# Altium integrated library optics.IntLib: 73 symbols
Pins are listed as number, name and electrical type; pins without a type are passive.

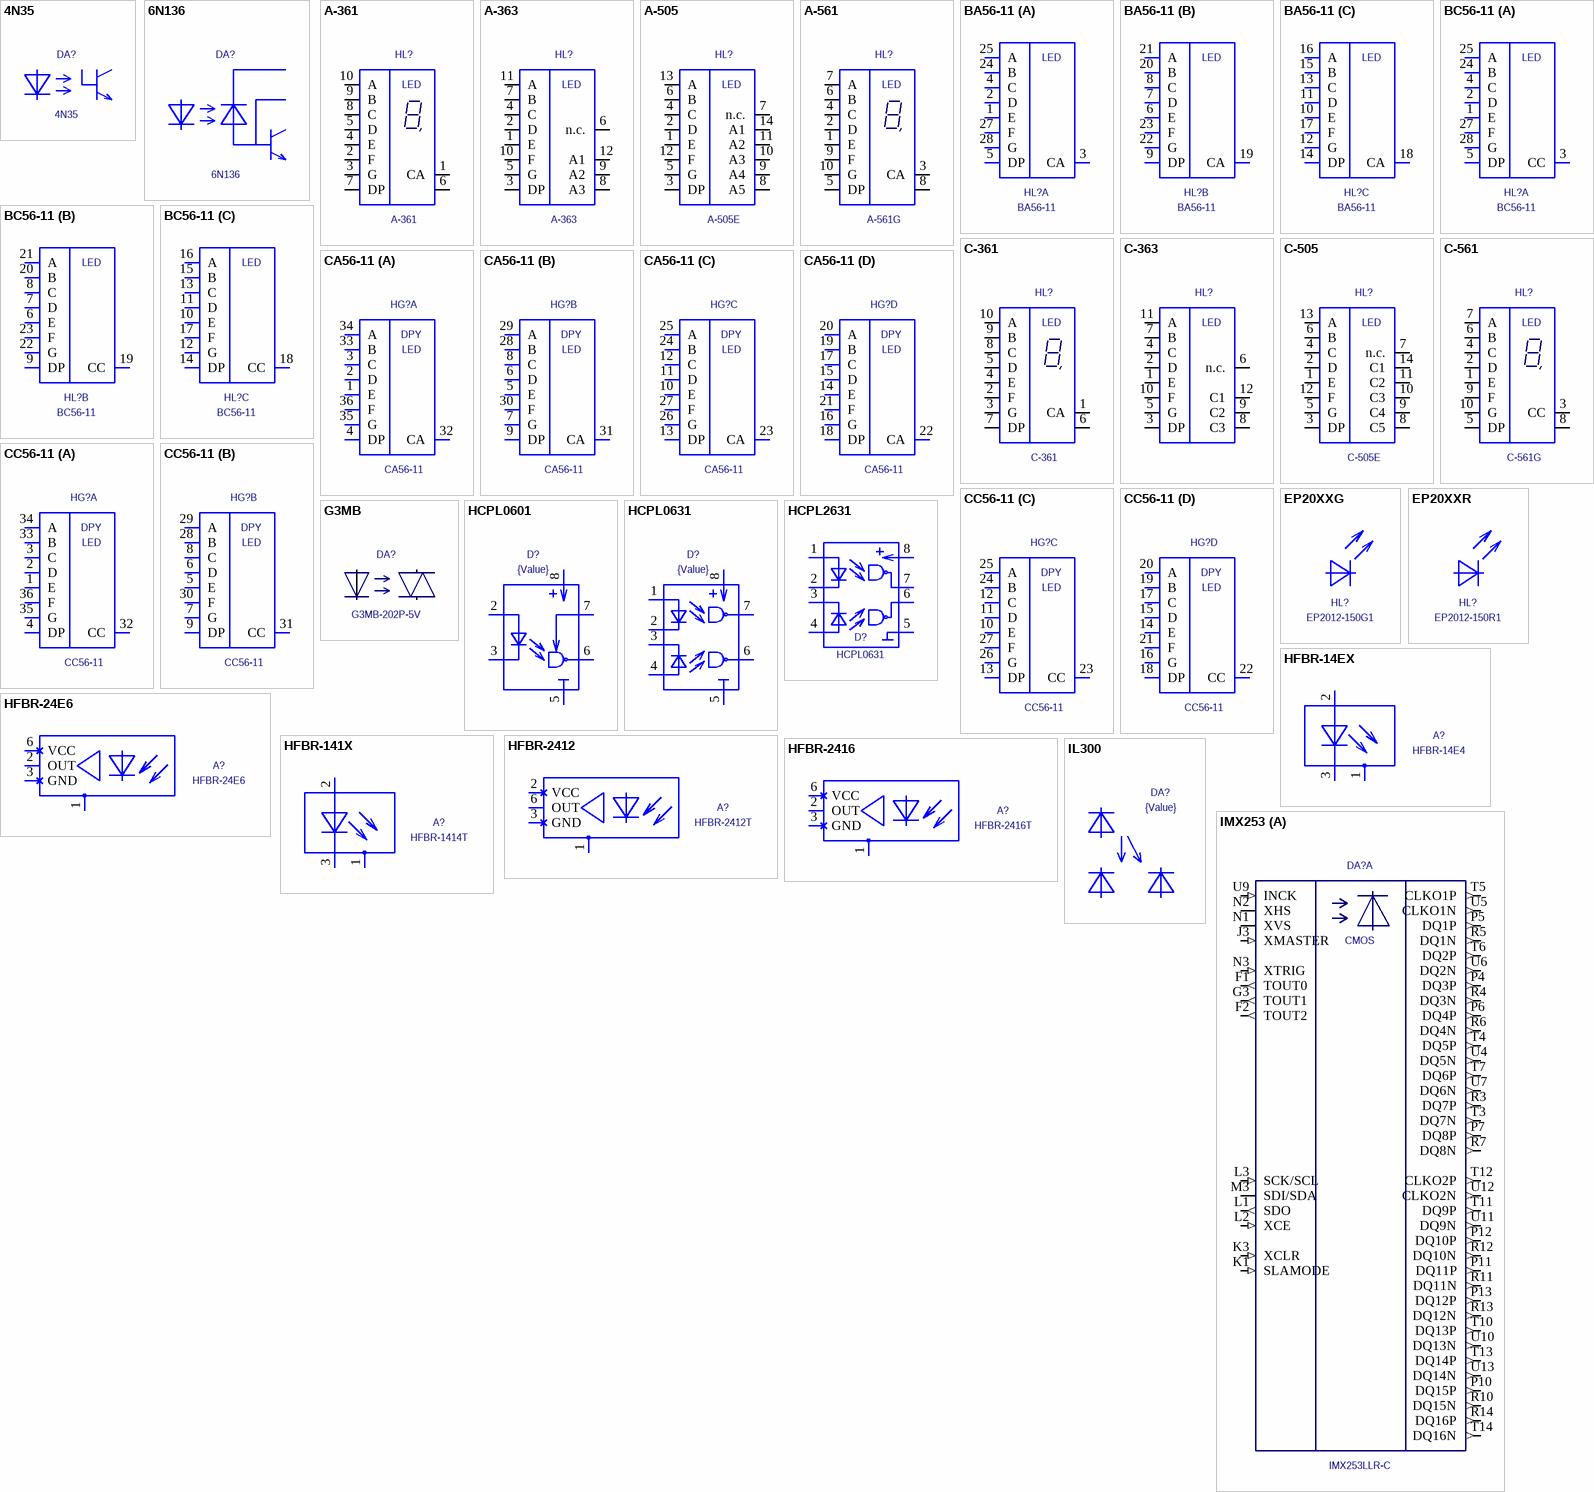
[diagram p0: symbols 4N35 to IMX253]

## 4N35
designator DA?
Value: 4N35
footprint DIP6WHITE
pins: 1 ANODE, 2 CATHODE, 3 hidden, 4 EMITT, 5 COLLECT, 6 BASE

## 6N136
designator DA?
Value: 6N136
footprint DIP8WHITE
pins: 1 hidden, 2 ANODE, 3 CATHODE, 4 hidden, 5 EMITT, 6 COLLECT, 7 BASE, 8 UVD

## A-361
designator HL?
7-seg 1-dig CA; Value: A-361
footprint SC36-11
pins: 1 CA, 2 F, 3 G, 4 E, 5 D, 6 CA, 7 DP, 8 C, 9 B, 10 A
text: LED

## A-363
designator HL?
7-seg 3-dig CA; Value: A-363
footprint A/C-363
pins: 1 E, 2 D, 3 DP, 4 C, 5 G, 6 n.c., 7 B, 8 A3, 9 A2, 10 F, 11 A, 12 A1
text: LED

## A-505
designator HL?, comment A-505E
7-seg 5 dig CA; Value: A-505E
footprint A/C-505
pins: 1 E, 2 D, 3 DP, 4 C, 5 G, 6 B, 7 n.c., 8 A5, 9 A4, 10 A3, 11 A2, 12 F, 13 A, 14 A1
text: LED

## A-561
designator HL?, comment A-561G
7-seg 1-dig CA; Value: A-561G
footprint A/C-551
pins: 1 E, 2 D, 3 CA, 4 C, 5 DP, 6 B, 7 A, 8 CA, 9 F, 10 G
text: LED

## BA56-11
designator HL?
Value: BA56-11
footprint BC56-11
pins on every part: 26 hidden
part A pins: 1 E, 2 D, 3 CA, 4 C, 5 DP, 24 B, 25 A, 27 F, 28 G
part B pins: 6 E, 7 D, 8 C, 9 DP, 19 CA, 20 B, 21 A, 22 G, 23 F
part C pins: 10 E, 11 D, 12 G, 13 C, 14 DP, 15 B, 16 A, 17 F, 18 CA
part A text: LED
part B text: LED
part C text: LED

## BC56-11
designator HL?
Value: BC56-11
footprint BC56-11
pins on every part: 26 hidden
part A pins: 1 E, 2 D, 3 CC, 4 C, 5 DP, 24 B, 25 A, 27 F, 28 G
part B pins: 6 E, 7 D, 8 C, 9 DP, 19 CC, 20 B, 21 A, 22 G, 23 F
part C pins: 10 E, 11 D, 12 G, 13 C, 14 DP, 15 B, 16 A, 17 F, 18 CC
part A text: LED
part B text: LED
part C text: LED

## C-361
designator HL?
7-seg 1-dig CC; Value: C-361
footprint SC36-11
pins: 1 CA, 2 F, 3 G, 4 E, 5 D, 6 CA, 7 DP, 8 C, 9 B, 10 A
text: LED

## C-363
designator HL?
7-seg 3-dig CC
footprint A/C-363
pins: 1 E, 2 D, 3 DP, 4 C, 5 G, 6 n.c., 7 B, 8 C3, 9 C2, 10 F, 11 A, 12 C1
text: LED

## C-505
designator HL?, comment C-505E
7-seg 5-dig CC; Value: C-505E
footprint A/C-505
pins: 1 E, 2 D, 3 DP, 4 C, 5 G, 6 B, 7 n.c., 8 C5, 9 C4, 10 C3, 11 C2, 12 F, 13 A, 14 C1
text: LED

## C-561
designator HL?, comment C-561G
7-seg 1-dig CC; Value: C-561G
footprint A/C-551
pins: 1 E, 2 D, 3 CC, 4 C, 5 DP, 6 B, 7 A, 8 CC, 9 F, 10 G
text: LED

## CA56-11
designator HG?
Value: CA56-11
footprint CC56-11
part A pins: 1 E, 2 D, 3 C, 4 DP, 32 CA, 33 B, 34 A, 35 G, 36 F
part B pins: 5 E, 6 D, 7 G, 8 C, 9 DP, 28 B, 29 A, 30 F, 31 CA
part C pins: 10 E, 11 D, 12 C, 13 DP, 23 CA, 24 B, 25 A, 26 G, 27 F
part D pins: 14 E, 15 D, 16 G, 17 C, 18 DP, 19 B, 20 A, 21 F, 22 CA
part A text: DPY; LED
part B text: DPY; LED
part C text: DPY; LED
part D text: DPY; LED

## CC56-11
designator HG?
Value: CC56-11
footprint CC56-11
part A pins: 1 E, 2 D, 3 C, 4 DP, 32 CC, 33 B, 34 A, 35 G, 36 F
part B pins: 5 E, 6 D, 7 G, 8 C, 9 DP, 28 B, 29 A, 30 F, 31 CC
part C pins: 10 E, 11 D, 12 C, 13 DP, 23 CC, 24 B, 25 A, 26 G, 27 F
part D pins: 14 E, 15 D, 16 G, 17 C, 18 DP, 19 B, 20 A, 21 F, 22 CC
part A text: DPY; LED
part B text: DPY; LED
part C text: DPY; LED
part D text: DPY; LED

## EP20XXG
designator HL?  value EP2012-150G1  (hidden comment: EP20XXG)
footprint EP20XX
pins: 1 hidden, 2 hidden, 3 C, 4 hidden, 5 hidden, 6 A

## EP20XXR
designator HL?  value EP2012-150R1  (hidden comment: EP20XXR)
footprint EP20XX
pins: 1 hidden, 2 C, 3 hidden, 4 hidden, 5 hidden, 6 A

## G3MB
designator DA?, comment G3MB-202P-5V
Solid state relay; Value: G3MB-202P-5V
footprint G3MB
footprint G3MB-4
pins: 1 COLLECT, 2 EMITT, 3 ANODE, 4 CATHODE

## HCPL0601
designator D?  value {Value}  (hidden comment: HCPL0601)
footprint SO8
pins: 1 hidden, 2 A, 3 C, 4 hidden, 5 GND (power), 6 OUT (oe), 7 EN, 8 VCC (power)

## HCPL0631
designator D?  value {Value}  (hidden comment: HCPL0631)
footprint SO8
pins: 1 A1, 2 C1, 3 C2, 4 A2, 5 GND (power), 6 OUT2 (oe), 7 OUT1 (oe), 8 VCC (power)

## HCPL2631
designator D?  value HCPL0631  (hidden comment: HCPL2631)
footprint DIP8
pins: 1 A1, 2 C1, 3 C2, 4 A2, 5 GND (power), 6 OUT2 (oe), 7 OUT1 (oe), 8 VCC (power)

## HFBR-14EX
designator A?  value HFBR-14E4  (hidden comment: HFBR-14EX)
footprint DIP2X4SC
pins: 1 SH, 2 A, 3 C, 4 SH, 5 SH, 6 A, 7 A, 8 SH

## HFBR-24E6
designator A?
Value: HFBR-24E6
footprint DIP2X4SC
pins: 1 SH, 2 OUT, 3 GND, 4 SH, 5 SH, 6 VCC, 7 GND, 8 SH

## HFBR-141X
designator A?  value HFBR-1414T  (hidden comment: HFBR-141X)
footprint DIP2X4ST
pins: 1 SH, 2 A, 3 C, 4 SH, 5 SH, 6 A, 7 A, 8 SH

## HFBR-2412
designator A?  value HFBR-2412T  (hidden comment: HFBR-2412)
footprint DIP2X4ST
pins: 1 SH, 2 VCC, 3 GND, 4 SH, 5 SH, 6 OUT, 7 GND, 8 SH

## HFBR-2416
designator A?  value HFBR-2416T  (hidden comment: HFBR-2416)
footprint DIP2X4ST
pins: 1 SH, 2 OUT, 3 GND, 4 SH, 5 SH, 6 VCC, 7 GND, 8 SH

## IL300
designator DA?  value {Value}  (hidden comment: IL300)
footprint DIP8
pins: 1 CATHODE1, 2 ANODE1, 3 CATHODE2, 4 ANODE2, 5 ANODE3, 6 CATHODE3, 7 hidden, 8 hidden

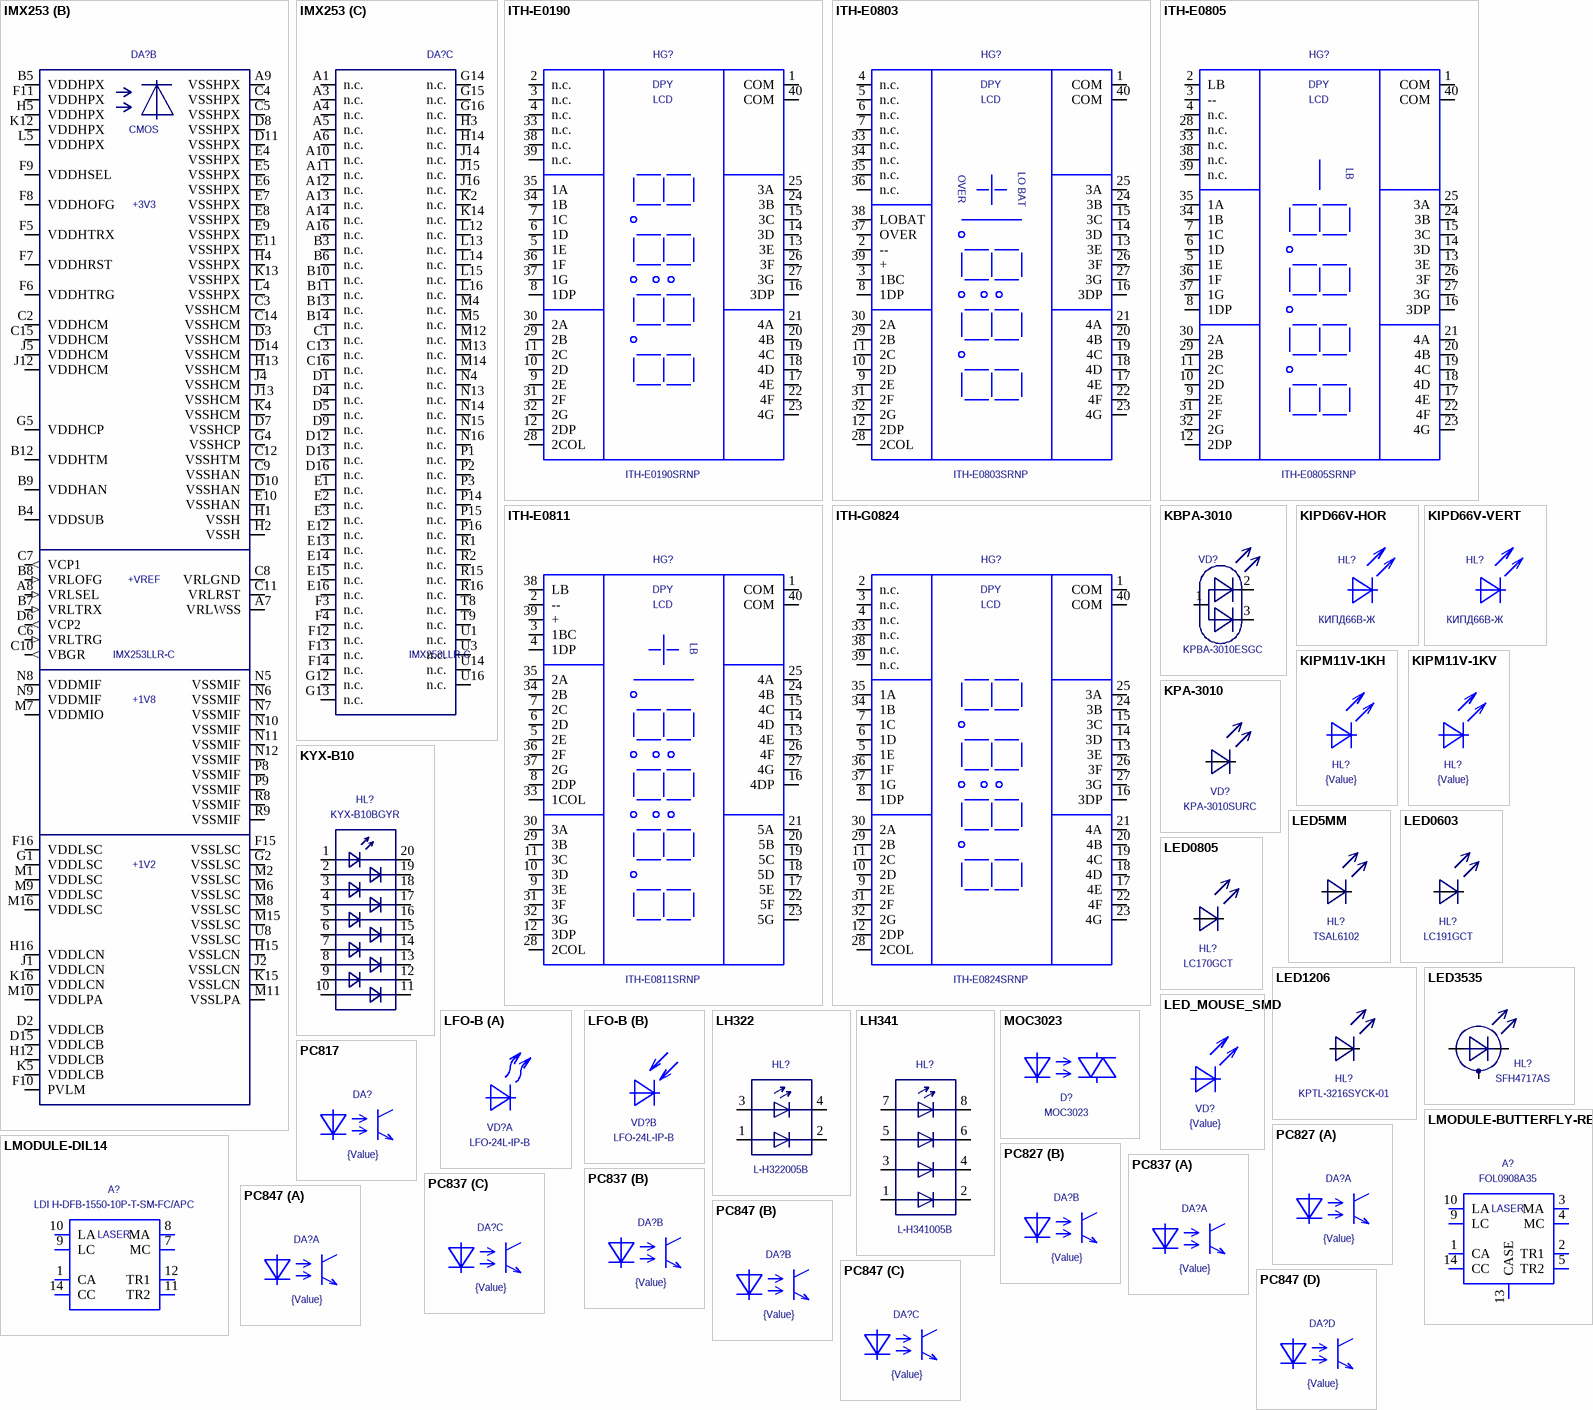
[diagram p1: symbols IMX253 to PC847]

## IMX253
designator DA?, comment IMX253LLR-C
CMOS matrix sensor; Value: IMX253LLR-C
footprint IMX253
part A pins: F1 TOUT0 (out) "Pulse0 output pin", F2 TOUT2 (out) "Pulse2 output pin", G3 TOUT1 (out) "Pulse1 output pin", J3 XMASTER (in) "Master / Slave select (Slave Mode: High, Master Mode: Low)", K1 SLAMODE (in) "Slave address select (1A: High, 10: Low)", K3 XCLR (in) "System clear (Normal: High, Clear: Low)", L1 SDO (out) "4-wire: Serial communication I/F SDO pin; I2C: open", L2 XCE (in) "4-wire: Serial communication I/F XCE pin; I2C: Fixed to High", L3 SCK/SCL (in) "4-wire: Serial communication I/F SCK pin; I2C: Serial clock line", M3 SDI/SDA (io) "4-wire: Serial communication I/F SDI pin; I2C: Serial data lin", N1 XVS (io) "Vertical sync signal", N2 XHS (io) "Horizontal sync signal", N3 XTRIG (in) "Master / Slave select (Slave Mode: High, Master Mode: Low)", P4 DQ3P (out) "LVDS serial output (Data)", P5 DQ1P (out) "LVDS serial output (Data)", P6 DQ4P (out) "LVDS serial output (Data)", P7 DQ8P (out) "LVDS serial output (Data)", P10 DQ15P (out) "LVDS serial output (Data)", P11 DQ11P (out) "LVDS serial output (Data)", P12 DQ10P (out) "LVDS serial output (Data)", P13 DQ12P (out) "LVDS serial output (Data)", R3 DQ7P (out) "LVDS serial output (Data)", R4 DQ3N (out) "LVDS serial output (Data)", R5 DQ1N (out) "LVDS serial output (Data)", R6 DQ4N (out) "LVDS serial output (Data)", R7 DQ8N (out) "LVDS serial output (Data)", R10 DQ15N (out) "LVDS serial output (Data)", R11 DQ11N (out) "LVDS serial output (Data)", R12 DQ10N (out) "LVDS serial output (Data)", R13 DQ12N (out) "LVDS serial output (Data)", R14 DQ16P (out) "LVDS serial output (Data)", T3 DQ7N (out) "LVDS serial output (Data)", T4 DQ5P (out) "LVDS serial output (Data)", T5 CLKO1P (out) "LVDS serial output (Clock)", T6 DQ2P (out) "LVDS serial output (Data)", T7 DQ6P (out) "LVDS serial output (Data)", T10 DQ13P (out) "LVDS serial output (Data)", T11 DQ9P (out) "LVDS serial output (Data)", T12 CLKO2P (out) "LVDS serial output (Clock)", T13 DQ14P (out) "LVDS serial output (Data)", T14 DQ16N (out) "LVDS serial output (Data)", U4 DQ5N (out) "LVDS serial output (Data)", U5 CLKO1N (out) "LVDS serial output (Clock)", U6 DQ2N (out) "LVDS serial output (Data)", U7 DQ6N (out) "LVDS serial output (Data)", U9 INCK (in) "Master clock input", U10 DQ13N (out) "LVDS serial output (Data)", U11 DQ9N (out) "LVDS serial output (Data)", U12 CLKO2N (out) "LVDS serial output (Clock)", U13 DQ14N (out) "LVDS serial output (Data)"
part B pins: A7 VRLWSS (power) "3.3V GND", A8 VRLSEL (in) "Connect to VCP1", A9 VSSHPX (power) "3.3V GND", B4 VDDSUB (power) "3.3V power supply", B5 VDDHPX (power) "3.3V power supply", B7 VRLTRX (in) "Connect to VCP1", B8 VRLOFG (in) "Connect to VCP1", B9 VDDHAN (power) "3.3V power supply", B12 VDDHTM (power) "3.3V power supply", C2 VDDHCM (power) "3.3V power supply", C3 VSSHCM (power) "3.3V GND", C4 VSSHPX (power) "3.3V GND", C5 VSSHPX (power) "3.3V GND", C6 VRLTRG (in) "Connect to VCP2", C7 VCP1 (out) "Connect to VRLSEL, VRLTRX, VRLOFG (Connect to 4.7μF × 2 to GND)", C8 VRLGND (power) "3.3V GND", C9 VSSHAN (power) "3.3V GND", C10 VBGR (out) "Connect to 0.22μF to GND", C11 VRLRST (power) "3.3V GND", C12 VSSHTM (power) "3.3V GND", C14 VSSHCM (power) "3.3V GND", C15 VDDHCM (power) "3.3V power supply", D2 VDDLCB (power) "1.2V analog power supply", D3 VSSHCM (power) "3.3V GND", D6 VCP2 (out) "Connect to VRLTRG (Connect to 4.7μF × 2 to GND)", D7 VSSHCP (power) "3.3V GND", D8 VSSHPX (power) "3.3V GND", D10 VSSHAN (power) "3.3V GND", D11 VSSHPX (power) "3.3V GND", D14 VSSHCM (power) "3.3V GND", D15 VDDLCB (power) "1.2V analog power supply", E4 VSSHPX (power) "3.3V GND", E5 VSSHPX (power) "3.3V GND", E6 VSSHPX (power) "3.3V GND", E7 VSSHPX (power) "3.3V GND", E8 VSSHPX (power) "3.3V GND", E9 VSSHPX (power) "3.3V GND", E10 VSSHAN (power) "3.3V GND", E11 VSSHPX (power) "3.3V GND", F5 VDDHTRX (power) "3.3V power supply", F6 VDDHTRG (power) "3.3V power supply", F7 VDDHRST (power) "3.3V power supply", F8 VDDHOFG (power) "3.3V power supply", F9 VDDHSEL (power) "3.3V power supply", F10 PVLM (power) "1.2V analog power supply", F11 VDDHPX (power) "3.3V power supply", F15 VSSLSC (power) "1.2V GND", F16 VDDLSC (power) "1.2V power supply", G1 VDDLSC (power) "1.2V power supply", G2 VSSLSC (power) "1.2V GND", G4 VSSHCP (power) "3.3V GND", G5 VDDHCP (power) "3.3V power supply", H1 VSSH (power) "3.3V GND", H2 VSSH (power) "3.3V GND", H4 VSSHPX (power) "3.3V GND", H5 VDDHPX (power) "3.3V power supply", H12 VDDLCB (power) "1.2V analog power supply", H13 VSSHCM (power) "3.3V GND", H15 VSSLCN (power) "1.2V GND", H16 VDDLCN (power) "1.2V power supply", J1 VDDLCN (power) "1.2V power supply", J2 VSSLCN (power) "1.2V GND", J4 VSSHCM (power) "3.3V GND", J5 VDDHCM (power) "3.3V power supply", J12 VDDHCM (power) "3.3V power supply", J13 VSSHCM (power) "3.3V GND", K4 VSSHCM (power) "3.3V GND", K5 VDDLCB (power) "1.2V analog power supply", K12 VDDHPX (power) "3.3V power supply", K13 VSSHPX (power) "3.3V GND", K15 VSSLCN (power) "1.2V GND", K16 VDDLCN (power) "1.2V power supply", L4 VSSHPX (power) "3.3V GND", L5 VDDHPX (power) "3.3V power supply", M1 VDDLSC (power) "1.2V power supply", M2 VSSLSC (power) "1.2V GND", M6 VSSLSC (power) "1.2V GND", M7 VDDMIO (power) "1.8V power supply", M8 VSSLSC (power) "1.2V GND", M9 VDDLSC (power) "1.2V power supply", M10 VDDLPA (power) "1.2V power supply", M11 VSSLPA (power) "1.2V GND", M15 VSSLSC (power) "1.2V GND", M16 VDDLSC (power) "1.2V power supply", N5 VSSMIF (power) "1.8V GND", N6 VSSMIF (power) "1.8V GND", N7 VSSMIF (power) "1.8V GND", N8 VDDMIF (power) "1.8V power supply", N9 VDDMIF (power) "1.8V power supply", N10 VSSMIF (power) "1.8V GND", N11 VSSMIF (power) "1.8V GND", N12 VSSMIF (power) "1.8V GND", P8 VSSMIF (power) "1.8V GND", P9 VSSMIF (power) "1.8V GND", R8 VSSMIF (power) "1.8V GND", R9 VSSMIF (power) "1.8V GND", U8 VSSLSC (power) "1.2V GND"
part C pins: A1 n.c., A3 n.c., A4 n.c., A5 n.c., A6 n.c., A10 n.c., A11 n.c., A12 n.c., A13 n.c., A14 n.c., A16 n.c., B3 n.c., B6 n.c., B10 n.c., B11 n.c., B13 n.c., B14 n.c., C1 n.c., C13 n.c., C16 n.c., D1 n.c., D4 n.c., D5 n.c., D9 n.c., D12 n.c., D13 n.c., D16 n.c., E1 n.c., E2 n.c., E3 n.c., E12 n.c., E13 n.c., E14 n.c., E15 n.c., E16 n.c., F3 n.c., F4 n.c., F12 n.c., F13 n.c., F14 n.c., G12 n.c., G13 n.c., G14 n.c., G15 n.c., G16 n.c., H3 n.c., H14 n.c., J14 n.c., J15 n.c., J16 n.c., K2 n.c., K14 n.c., L12 n.c., L13 n.c., L14 n.c., L15 n.c., L16 n.c., M4 n.c., M5 n.c., M12 n.c., M13 n.c., M14 n.c., N4 n.c., N13 n.c., N14 n.c., N15 n.c., N16 n.c., P1 n.c., P2 n.c., P3 n.c., P14 n.c., P15 n.c., P16 n.c., R1 n.c., R2 n.c., R15 n.c., R16 n.c., T8 n.c., T9 n.c., U1 n.c., U3 n.c., U14 n.c., U16 n.c.
part A text: CMOS
part B text: CMOS; +3V3; +VREF; +1V8; +1V2

## ITH-E0190
designator HG?, comment ITH-E0190SRNP
Intech 4x7 seg. LCD; Value: ITH-E0190SRNP
footprint ITH-E0190 (Intech numeric LCD)
pins: 1 COM, 2 n.c., 3 n.c., 4 n.c., 5 1E, 6 1D, 7 1C, 8 1DP, 9 2E, 10 2D, 11 2C, 12 2DP, 13 3E, 14 3D, 15 3C, 16 3DP, 17 4E, 18 4D, 19 4C, 20 4B, 21 4A, 22 4F, 23 4G, 24 3B, 25 3A, 26 3F, 27 3G, 28 2COL, 29 2B, 30 2A, 31 2F, 32 2G, 33 n.c., 34 1B, 35 1A, 36 1F, 37 1G, 38 n.c., 39 n.c., 40 COM
text: DPY; LCD

## ITH-E0803
designator HG?, comment ITH-E0803SRNP
Intech 3.5x7 seg. LCD; Value: ITH-E0803SRNP
footprint ITH-E0803 (Intech numeric LCD)
pins: 1 COM, 2 --, 3 1BC, 4 n.c., 5 n.c., 6 n.c., 7 n.c., 8 1DP, 9 2E, 10 2D, 11 2C, 12 2DP, 13 3E, 14 3D, 15 3C, 16 3DP, 17 4E, 18 4D, 19 4C, 20 4B, 21 4A, 22 4F, 23 4G, 24 3B, 25 3A, 26 3F, 27 3G, 28 2COL, 29 2B, 30 2A, 31 2F, 32 2G, 33 n.c., 34 n.c., 35 n.c., 36 n.c., 37 OVER, 38 LOBAT, 39 +, 40 COM
text: DPY; LCD; LO BAT

## ITH-E0805
designator HG?, comment ITH-E0805SRNP
Intech 4x7 seg. LCD; Value: ITH-E0805SRNP
footprint ITH-E0805 (Intech numeric LCD)
pins: 1 COM, 2 LB, 3 --, 4 n.c., 5 1E, 6 1D, 7 1C, 8 1DP, 9 2E, 10 2D, 11 2C, 12 2DP, 13 3E, 14 3D, 15 3C, 16 3DP, 17 4E, 18 4D, 19 4C, 20 4B, 21 4A, 22 4F, 23 4G, 24 3B, 25 3A, 26 3F, 27 3G, 28 n.c., 29 2B, 30 2A, 31 2F, 32 2G, 33 n.c., 34 1B, 35 1A, 36 1F, 37 1G, 38 n.c., 39 n.c., 40 COM
text: DPY; LCD

## ITH-E0811
designator HG?, comment ITH-E0811SRNP
Intech 4.5x7 seg. LCD; Value: ITH-E0811SRNP
footprint ITH-E0811 (Intech numeric LCD)
pins: 1 COM, 2 --, 3 1BC, 4 1DP, 5 2E, 6 2D, 7 2C, 8 2DP, 9 3E, 10 3D, 11 3C, 12 3DP, 13 4E, 14 4D, 15 4C, 16 4DP, 17 5E, 18 5D, 19 5C, 20 5B, 21 5A, 22 5F, 23 5G, 24 4B, 25 4A, 26 4F, 27 4G, 28 2COL, 29 3B, 30 3A, 31 3F, 32 3G, 33 1COL, 34 2B, 35 2A, 36 2F, 37 2G, 38 LB, 39 +, 40 COM
text: DPY; LCD

## ITH-G0824
designator HG?, comment ITH-E0824SRNP
Intech 4x7 seg. LCD; Value: ITH-E0824SRNP
footprint ITH-G0824 (Intech numeric LCD)
pins: 1 COM, 2 n.c., 3 n.c., 4 n.c., 5 1E, 6 1D, 7 1C, 8 1DP, 9 2E, 10 2D, 11 2C, 12 2DP, 13 3E, 14 3D, 15 3C, 16 3DP, 17 4E, 18 4D, 19 4C, 20 4B, 21 4A, 22 4F, 23 4G, 24 3B, 25 3A, 26 3F, 27 3G, 28 2COL, 29 2B, 30 2A, 31 2F, 32 2G, 33 n.c., 34 1B, 35 1A, 36 1F, 37 1G, 38 n.c., 39 n.c., 40 COM
text: DPY; LCD

## KBPA-3010
designator VD?, comment KPBA-3010ESGC
Side 2-color LED; Value: KPBA-3010ESGC
footprint KPA-3010_R (Side SMD led)
footprint KPA-3010_G (Side SMD led)
footprint KPA-3010_Y (Side SMD led)
pins: 1 A, 2 C2, 3 C3

## KIPD66V-HOR
designator HL?, comment КИПД66В-Ж
3mm led horizontal; Value: КИПД66В-Ж
footprint KIPD66V-KH_KIPD66V-KH(Primary)
pins: A, C

## KIPD66V-VERT
designator HL?, comment КИПД66В-Ж
3mm led vertical; Value: КИПД66В-Ж
footprint KIPD66V-KV_KIPD66V-KV(Primary)
pins: A, C

## KIPM11V-1KH
designator HL?  value {Value}  (hidden comment: KIPM11V-1KH)
footprint KIPM11V-1KH_KIPM11V-1KH(Primary)
pins: A, C

## KIPM11V-1KV
designator HL?  value {Value}  (hidden comment: KIPM11V-1KV)
footprint KIPM11V-1KV_KIPM11V-1KV(Primary)
pins: A, C

## KPA-3010
designator VD?, comment KPA-3010SURC
Side LED; Value: KPA-3010SURC
footprint KPA-3010_R (Side SMD led)
footprint KPA-3010_G (Side SMD led)
footprint KPA-3010_Y (Side SMD led)
pins: 1 A, 3 C

## KYX-B10
designator HL?, comment KYX-B10BGYR
10-LED bar; Value: KYX-B10BGYR
footprint KYX-B10BGYR
pins: 1 A1, 2 A2, 3 A3, 4 A4, 5 A5, 6 A6, 7 A7, 8 A8, 9 A9, 10 A10, 11 C10, 12 C9, 13 C8, 14 C7, 15 C6, 16 C5, 17 C4, 18 C3, 19 C2, 20 C1

## LED5MM
designator HL?, comment TSAL6102
d5mm LED; Value: TSAL6102
footprint LED5MMV (LED d=5mm vertical)
pins: A, C

## LED0603
designator HL?, comment LC191GCT
0603 LED; Value: LC191GCT
footprint LED0603_G
footprint LED0603_Y
footprint LED0603_R
footprint KPA-1606_G (Side SMD led)
footprint KPA-1606_R (Side SMD led)
footprint KPA-1606_Y (Side SMD led)
pins: A, C

## LED0805
designator HL?, comment LC170GCT
0805 LED; Value: LC170GCT
footprint LED0805_G
footprint LED0805_Y
footprint LED0805_R
footprint LED0805_N
pins: A, C

## LED1206
designator HL?, comment KPTL-3216SYCK-01
1206 LED; Value: KPTL-3216SYCK-01
footprint KPTL-3216_Y
footprint KPTL-3216_G
footprint LED1206
footprint LED1210_G
footprint LED1210_N
footprint LED1210_R
footprint LED1210_Y
footprint LED3528_1
pins: A, C

## LED3535
designator HL?, comment SFH4717AS
3535 LED; Value: SFH4717AS
footprint LED3535_N
pins: A, C, H

## LED_MOUSE_SMD
designator VD?  value {Value}  (hidden comment: LED_MOUSE_SMD)
footprint LED_MOUSE_SMD
pins: 1 C, 2 A

## LFO-B
designator VD?  value LFO-24L-IP-B  (hidden comment: LFO-B)
footprint 4PIN-B
part A pins: 3 A, 4 C
part B pins: 1 C, 2 A

## LH322
designator HL?, comment L-H322005B
2 LEDs; Value: L-H322005B
footprint LH322
pins: 1 A2, 2 C2, 3 A1, 4 C1

## LH341
designator HL?, comment L-H341005B
4 LEDs; Value: L-H341005B
footprint LH341
pins: 1 A4, 2 C4, 3 A3, 4 C3, 5 A2, 6 C2, 7 A1, 8 C1

## LMODULE-BUTTERFLY-REV
designator A?  value FOL0908A35  (hidden comment: LMODULE-BUTTERFLY-REV)
footprint BUTTERFLY-REV
pins: 1 CA, 2 TR1, 3 MA, 4 MC, 5 TR2, 6 hidden, 7 hidden, 8 hidden, 9 LC, 10 LA, 11 hidden, 12 hidden, 13 CASE, 14 CC, 15 hidden, 16 hidden, 17 hidden, 18 hidden
text: LASER

## LMODULE-DIL14
designator A?  value LDI H-DFB-1550-10P-T-SM-FC/APC  (hidden comment: LMODULE-DIL14)
footprint LASER-DIL14
pins: 1 CA, 2 hidden, 3 hidden, 4 hidden, 5 hidden, 6 hidden, 7 MC, 8 MA, 9 LC, 10 LA, 11 TR2, 12 TR1, 13 hidden, 14 CC
text: LASER

## MOC3023
designator D?
Value: MOC3023
footprint DIP6WHITE
pins: 1 ANODE, 2 CATHODE, 3 hidden, 4 AC, 5 hidden, 6 AC

## PC817
designator DA?, comment {Value}
PC817; Value: {Value}
footprint DIP4
footprint DIP4S
footprint SO4-7mm (7mm wide)
pins: 1 ANODE, 2 CATHODE, 3 EMITT, 4 COLLECT

## PC827
designator DA?, comment {Value}
PC827; Value: {Value}
footprint DIP8
part A pins: 1 ANODE, 2 CATHODE, 7 EMITT, 8 COLLECT
part B pins: 3 ANODE, 4 CATHODE, 5 EMITT, 6 COLLECT

## PC837
designator DA?, comment {Value}
PC837; Value: {Value}
footprint DIP12
part A pins: 1 ANODE, 2 CATHODE, 11 EMITT, 12 COLLECT
part B pins: 3 ANODE, 4 CATHODE, 9 EMITT, 10 COLLECT
part C pins: 5 ANODE, 6 CATHODE, 7 EMITT, 8 COLLECT

## PC847
designator DA?, comment {Value}
PC847; Value: {Value}
footprint DIP16
footprint SO16-7mm (7mm wide)
part A pins: 1 ANODE, 2 CATHODE, 15 EMITT, 16 COLLECT
part B pins: 3 ANODE, 4 CATHODE, 13 EMITT, 14 COLLECT
part C pins: 5 ANODE, 6 CATHODE, 11 EMITT, 12 COLLECT
part D pins: 7 ANODE, 8 CATHODE, 9 EMITT, 10 COLLECT

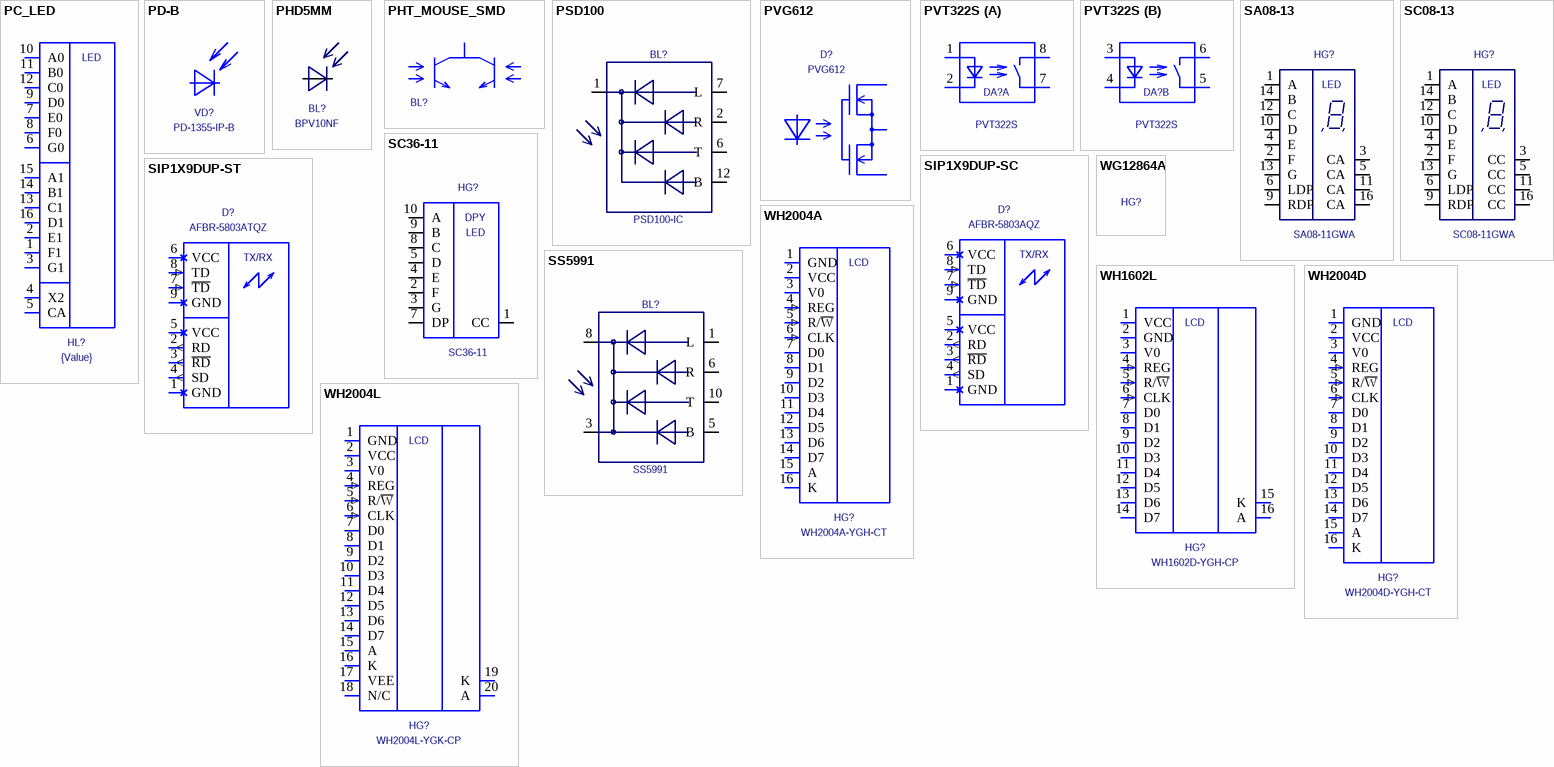
[diagram p2: symbols PC_LED to WH2004L]

## PC_LED
designator HL?  value {Value}  (hidden comment: PC_LED)
footprint PC_LED
pins: 1 F1, 2 E1, 3 G1, 4 X2, 5 CA, 6 G0, 7 E0, 8 F0, 9 D0, 10 A0, 11 B0, 12 C0, 13 C1, 14 B1, 15 A1, 16 D1
text: LED

## PD-B
designator VD?  value PD-1355-IP-B  (hidden comment: PD-B)
footprint 4PIN-B
pins: 1 hidden, 2 C, 3 GND (power) hidden, 4 A

## PHD5MM
designator BL?, comment BPV10NF
d5mm Photodiode; Value: BPV10NF
footprint LED5MMV (LED d=5mm vertical)
pins: A, C

## PHT_MOUSE_SMD
designator BL?  (value not drawn)
Value: {Value}
footprint PHT_MOUSE_SMD
pins: 1 E1, 2 CC, 3 E2

## PSD100
designator BL?, comment PSD100-IC
PSD; Value: PSD100-IC
footprint PSD100-TH
pins: 1 C, 2 R, 6 T, 7 L, 12 B

## PVG612
designator D?
Value: PVG612
footprint DIP6
pins: 1 ANODE, 2 CATHODE, 3 hidden, 4 DRN, 5 SRC, 6 DRN

## PVT322S
designator DA?
Value: PVT322S
footprint DIP8S
footprint DIP8
part A pins: 1, 2, 7, 8
part B pins: 3 1, 4 2, 5 7, 6 8

## SA08-13
designator HG?, comment SA08-11GWA
7-seg 1-dig CA; Value: SA08-11GWA
footprint SC08-13
pins: 1 A, 2 F, 3 CA, 4 E, 5 CA, 6 LDP, 9 RDP, 10 D, 11 CA, 12 C, 13 G, 14 B, 16 CA
text: LED

## SC08-13
designator HG?, comment SC08-11GWA
7-seg 1-dig CC; Value: SC08-11GWA
footprint SC08-13
pins: 1 A, 2 F, 3 CC, 4 E, 5 CC, 6 LDP, 9 RDP, 10 D, 11 CC, 12 C, 13 G, 14 B, 16 CC
text: LED

## SC36-11
designator HG?
Value: SC36-11
footprint SC36-11
pins: 1 CC, 2 F, 3 G, 4 E, 5 D, 6 n.c. hidden, 7 DP, 8 C, 9 B, 10 A
text: DPY; LED

## SIP1X9DUP-SC
designator D?  value AFBR-5803AQZ  (hidden comment: SIP1X9DUP-SC)
footprint SIP1X9SC
pins: 1 GND (power), 2 RD (out), 3 ~{RD} (out), 4 SD (out), 5 VCC (power), 6 VCC (power), 7 ~{TD} (in), 8 TD (in), 9 GND (power), 10 hidden, 11 hidden
text: TX/RX

## SIP1X9DUP-ST
designator D?  value AFBR-5803ATQZ  (hidden comment: SIP1X9DUP-ST)
footprint SIP1X9ST
pins: 1 GND (power), 2 RD (out), 3 ~{RD} (out), 4 SD (out), 5 VCC (power), 6 VCC (power), 7 ~{TD} (in), 8 TD (in), 9 GND (power), 10 hidden, 11 hidden
text: TX/RX

## SS5991
designator BL?
PSD; Value: SS5991
footprint PSD100-SMD
pins: 1 L, 3 C, 5 B, 6 R, 8 C, 10 T

## WG12864A
designator HG?  (value not drawn)
WG12864A; Value: WG12864-YGH-V
footprint WG12864A
pins: 25 hidden, 26 hidden, 27 hidden, 28 hidden

## WH1602L
designator HG?  value WH1602D-YGH-CP  (hidden comment: WH1602L)
footprint WH1602D
pins: 1 VCC (power), 2 GND (power), 3 V0 (power), 4 REG (in), 5 R/~{W} (in), 6 CLK (in), 7 D0 (io), 8 D1 (io), 9 D2 (io), 10 D3 (io), 11 D4 (io), 12 D5 (io), 13 D6 (io), 14 D7 (io), 15 K, 16 A, 17 hidden, 18 hidden, 19 hidden, 20 hidden
text: LCD

## WH2004A
designator HG?  value WH2004A-YGH-CT  (hidden comment: WH2004A)
footprint WH2004A
pins: 1 GND (power), 2 VCC (power), 3 V0 (power), 4 REG (in), 5 R/~{W} (in), 6 CLK (in), 7 D0 (io), 8 D1 (io), 9 D2 (io), 10 D3 (io), 11 D4 (io), 12 D5 (io), 13 D6 (io), 14 D7 (io), 15 A, 16 K, 17 hidden, 18 hidden, 19 hidden, 20 hidden
text: LCD

## WH2004D
designator HG?  value WH2004D-YGH-CT  (hidden comment: WH2004D)
footprint WH2004D
pins: 1 GND (power), 2 VCC (power), 3 V0 (power), 4 REG (in), 5 R/~{W} (in), 6 CLK (in), 7 D0 (io), 8 D1 (io), 9 D2 (io), 10 D3 (io), 11 D4 (io), 12 D5 (io), 13 D6 (io), 14 D7 (io), 15 A, 16 K, 17 hidden, 18 hidden, 19 hidden, 20 hidden
text: LCD

## WH2004L
designator HG?  value WH2004L-YGK-CP  (hidden comment: WH2004L)
footprint WH2004L
pins: 1 GND (power), 2 VCC (power), 3 V0 (power), 4 REG (in), 5 R/~{W} (in), 6 CLK (in), 7 D0 (io), 8 D1 (io), 9 D2 (io), 10 D3 (io), 11 D4 (io), 12 D5 (io), 13 D6 (io), 14 D7 (io), 15 A, 16 K, 17 VEE (power), 18 N/C, 19 K, 20 A, 21 hidden, 22 hidden, 23 hidden, 24 hidden
text: LCD